# EAGLE library part STM8S003F3P6 (library Nwazet.Go)
IC MCU 8BIT 8KB FLASH 20TSSOP
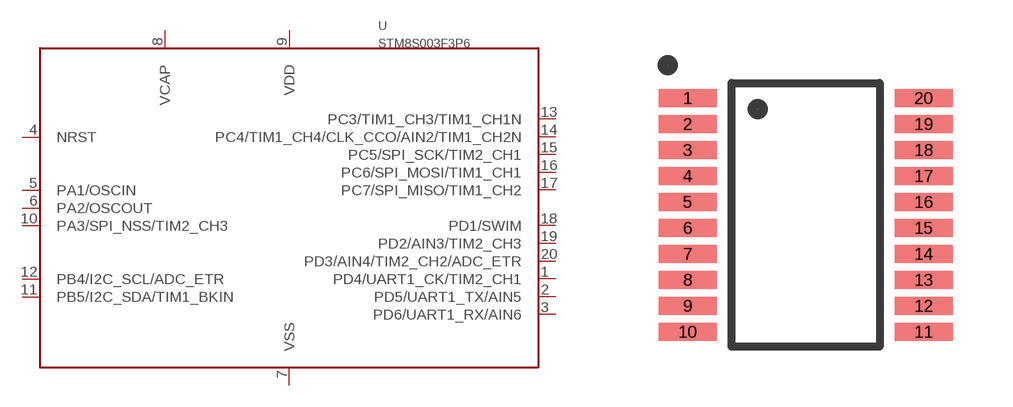
[diagram p1: symbol with the pads of STM8S003F3P6; footprint STM8S003F3P6]

Designator prefix -

## STM8S003F3P6  [STM8S003F3P6]
1  PD4/UART1_CK/TIM2_CH1
2  PD5/UART1_TX/AIN5
3  PD6/UART1_RX/AIN6
4  NRST
5  PA1/OSCIN
6  PA2/OSCOUT
7  VSS
8  VCAP
9  VDD
10  PA3/SPI_NSS/TIM2_CH3
11  PB5/I2C_SDA/TIM1_BKIN
12  PB4/I2C_SCL/ADC_ETR
13  PC3/TIM1_CH3/TIM1_CH1N
14  PC4/TIM1_CH4/CLK_CCO/AIN2/TIM1_CH2N
15  PC5/SPI_SCK/TIM2_CH1
16  PC6/SPI_MOSI/TIM1_CH1
17  PC7/SPI_MISO/TIM1_CH2
18  PD1/SWIM
19  PD2/AIN3/TIM2_CH3
20  PD3/AIN4/TIM2_CH2/ADC_ETR

## Footprint STM8S003F3P6 (pad centres in mm)
smd 1.45 x 0.45: 1 -2.95,2.925; 2 -2.95,2.275; 3 -2.95,1.625; 4 -2.95,0.975; 5 -2.95,0.325; 6 -2.95,-0.325; 7 -2.95,-0.975; 8 -2.95,-1.625; 9 -2.95,-2.275; 10 -2.95,-2.925; 11 2.95,-2.925; 12 2.95,-2.275; 13 2.95,-1.625; 14 2.95,-0.975; 15 2.95,-0.325; 16 2.95,0.325; 17 2.95,0.975; 18 2.95,1.625; 19 2.95,2.275; 20 2.95,2.925